# Altium schematic symbol library Analog_ADC.SchLib: 156 symbols (part 2 of 2)
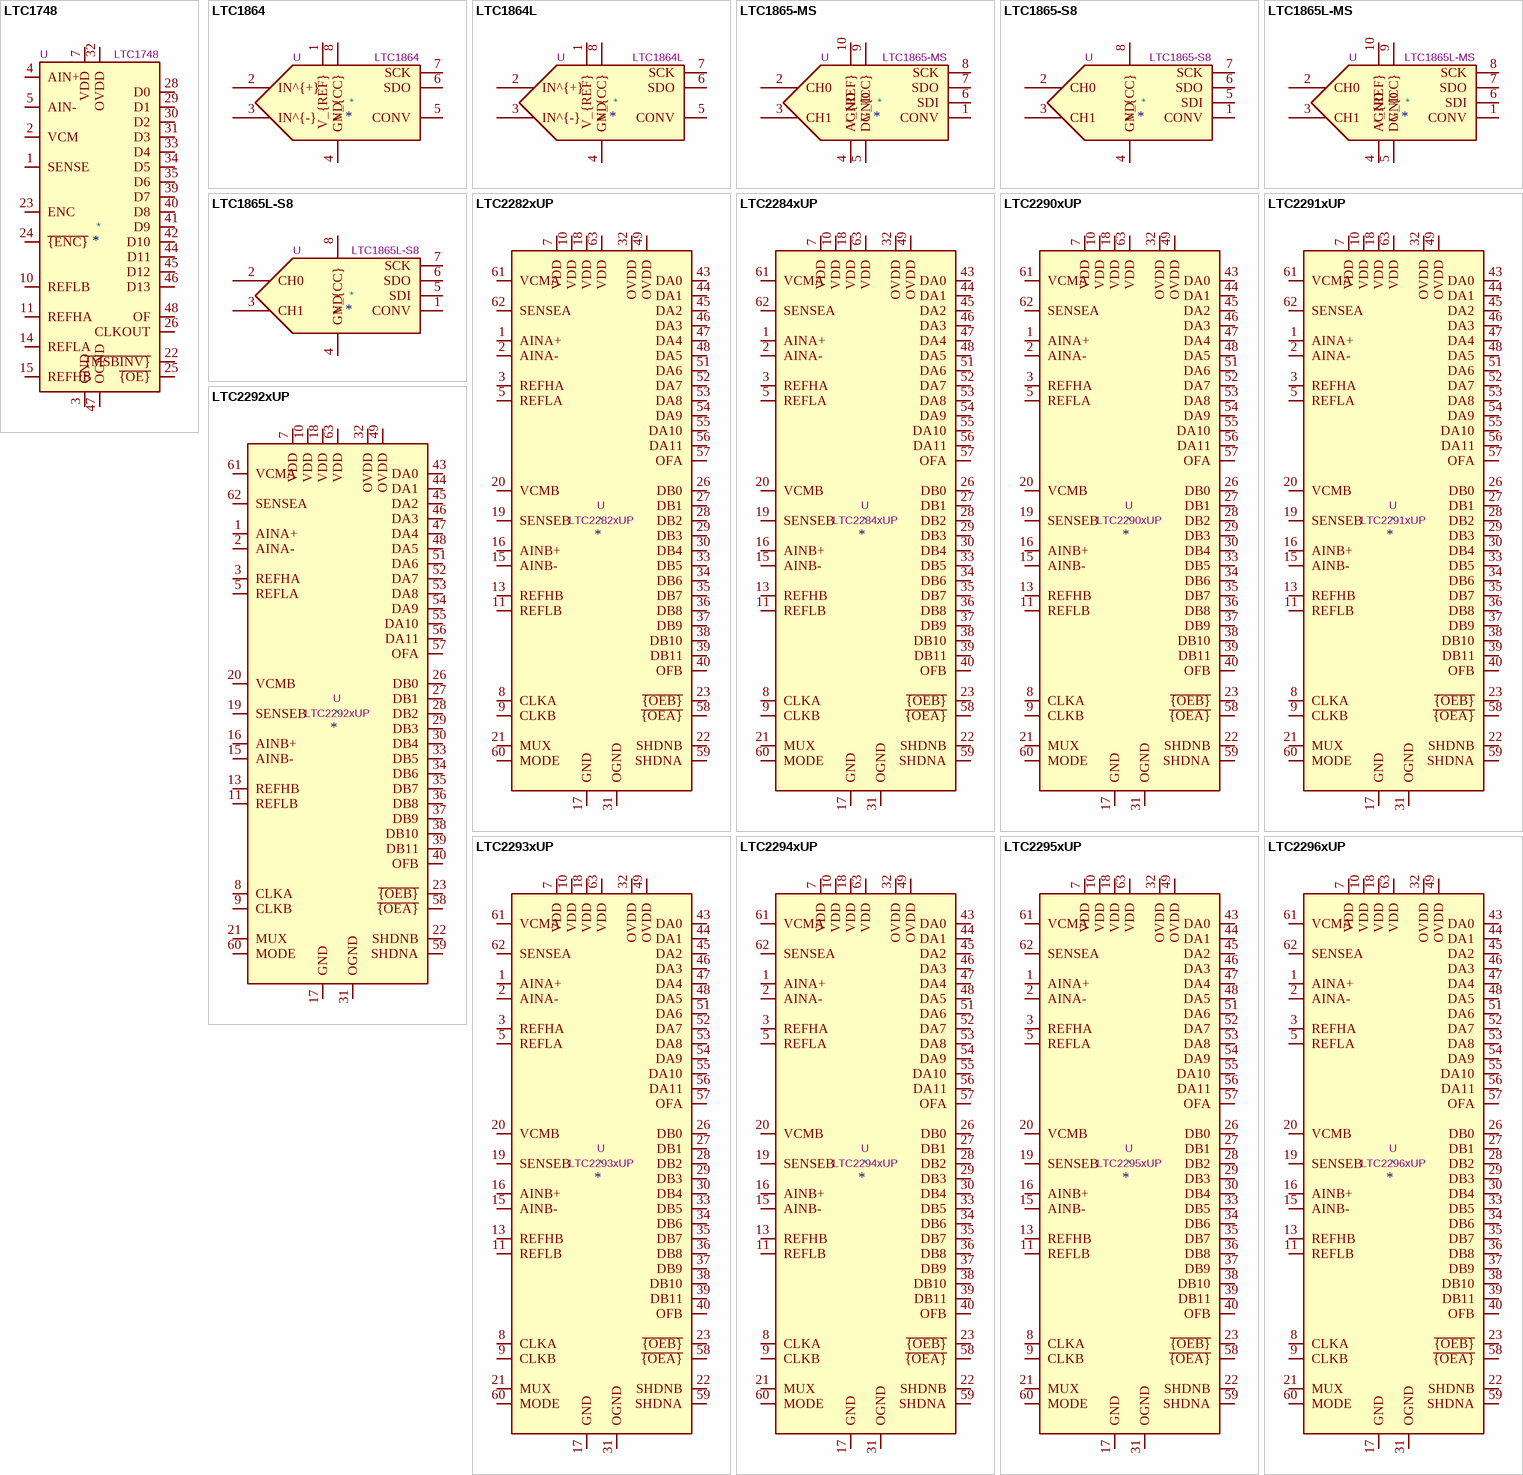
[diagram p6: symbols LTC1748 to LTC2296xUP]

## LTC2290xUP
designator *  value LTC2290xUP  Reference: U
ki_keywords: ADC; ki_description: Dual-Channel, 12-Bit Low Power ADC, 10Msps, QFN-64; ki_fp_filters: QFN*1EP*9x9mm*P0.5mm*; Footprint: Package_DFN_QFN:QFN-64-1EP_9x9mm_P0.5mm_EP7.15x7.15mm; Datasheet: https://www.analog.com/media/en/technical-documentation/data-sheets/2290fa.pdf
pins: 1 AINA+, 2 AINA-, 3 REFHA, 4 REFHA hidden, 5 REFLA, 6 REFLA hidden, 7 VDD, 8 CLKA, 9 CLKB, 10 VDD, 11 REFLB, 12 REFLB hidden, 13 REFHB, 14 REFHB hidden, 15 AINB-, 16 AINB+, 17 GND, 18 VDD, 19 SENSEB, 20 VCMB, 21 MUX, 22 SHDNB, 23 ~{{OEB}}, 24 NC hidden, 25 NC hidden, 26 DB0, 27 DB1, 28 DB2, 29 DB3, 30 DB4, 31 OGND, 32 OVDD, 33 DB5, 34 DB6, 35 DB7, 36 DB8, 37 DB9, 38 DB10, 39 DB11, 40 OFB, 41 NC hidden, 42 NC hidden, 43 DA0, 44 DA1, 45 DA2, 46 DA3, 47 DA4, 48 DA5, 49 OVDD, 50 OGND hidden, 51 DA6, 52 DA7, 53 DA8, 54 DA9, 55 DA10, 56 DA11, 57 OFA, 58 ~{{OEA}}, 59 SHDNA, 60 MODE, 61 VCMA, 62 SENSEA, 63 VDD, 64 GND hidden, 65 GND hidden

## LTC2291xUP
designator *  value LTC2291xUP  Reference: U
ki_keywords: ADC; ki_description: Dual-Channel, 12-Bit Low Power ADC, 25Msps, QFN-64; ki_fp_filters: QFN*1EP*9x9mm*P0.5mm*; Footprint: Package_DFN_QFN:QFN-64-1EP_9x9mm_P0.5mm_EP7.15x7.15mm; Datasheet: https://www.analog.com/media/en/technical-documentation/data-sheets/229321fa.pdf
pins: 1 AINA+, 2 AINA-, 3 REFHA, 4 REFHA hidden, 5 REFLA, 6 REFLA hidden, 7 VDD, 8 CLKA, 9 CLKB, 10 VDD, 11 REFLB, 12 REFLB hidden, 13 REFHB, 14 REFHB hidden, 15 AINB-, 16 AINB+, 17 GND, 18 VDD, 19 SENSEB, 20 VCMB, 21 MUX, 22 SHDNB, 23 ~{{OEB}}, 24 NC hidden, 25 NC hidden, 26 DB0, 27 DB1, 28 DB2, 29 DB3, 30 DB4, 31 OGND, 32 OVDD, 33 DB5, 34 DB6, 35 DB7, 36 DB8, 37 DB9, 38 DB10, 39 DB11, 40 OFB, 41 NC hidden, 42 NC hidden, 43 DA0, 44 DA1, 45 DA2, 46 DA3, 47 DA4, 48 DA5, 49 OVDD, 50 OGND hidden, 51 DA6, 52 DA7, 53 DA8, 54 DA9, 55 DA10, 56 DA11, 57 OFA, 58 ~{{OEA}}, 59 SHDNA, 60 MODE, 61 VCMA, 62 SENSEA, 63 VDD, 64 GND hidden, 65 GND hidden

## LTC2292xUP
designator *  value LTC2292xUP  Reference: U
ki_keywords: ADC; ki_description: Dual-Channel, 12-Bit Low Power ADC, 40Msps, QFN-64; ki_fp_filters: QFN*1EP*9x9mm*P0.5mm*; Footprint: Package_DFN_QFN:QFN-64-1EP_9x9mm_P0.5mm_EP7.15x7.15mm; Datasheet: https://www.analog.com/media/en/technical-documentation/data-sheets/229321fa.pdf
pins: 1 AINA+, 2 AINA-, 3 REFHA, 4 REFHA hidden, 5 REFLA, 6 REFLA hidden, 7 VDD, 8 CLKA, 9 CLKB, 10 VDD, 11 REFLB, 12 REFLB hidden, 13 REFHB, 14 REFHB hidden, 15 AINB-, 16 AINB+, 17 GND, 18 VDD, 19 SENSEB, 20 VCMB, 21 MUX, 22 SHDNB, 23 ~{{OEB}}, 24 NC hidden, 25 NC hidden, 26 DB0, 27 DB1, 28 DB2, 29 DB3, 30 DB4, 31 OGND, 32 OVDD, 33 DB5, 34 DB6, 35 DB7, 36 DB8, 37 DB9, 38 DB10, 39 DB11, 40 OFB, 41 NC hidden, 42 NC hidden, 43 DA0, 44 DA1, 45 DA2, 46 DA3, 47 DA4, 48 DA5, 49 OVDD, 50 OGND hidden, 51 DA6, 52 DA7, 53 DA8, 54 DA9, 55 DA10, 56 DA11, 57 OFA, 58 ~{{OEA}}, 59 SHDNA, 60 MODE, 61 VCMA, 62 SENSEA, 63 VDD, 64 GND hidden, 65 GND hidden

## LTC2293xUP
designator *  value LTC2293xUP  Reference: U
ki_keywords: ADC; ki_description: Dual-Channel, 12-Bit Low Power ADC, 65Msps, QFN-64; ki_fp_filters: QFN*1EP*9x9mm*P0.5mm*; Footprint: Package_DFN_QFN:QFN-64-1EP_9x9mm_P0.5mm_EP7.15x7.15mm; Datasheet: https://www.analog.com/media/en/technical-documentation/data-sheets/229321fa.pdf
pins: 1 AINA+, 2 AINA-, 3 REFHA, 4 REFHA hidden, 5 REFLA, 6 REFLA hidden, 7 VDD, 8 CLKA, 9 CLKB, 10 VDD, 11 REFLB, 12 REFLB hidden, 13 REFHB, 14 REFHB hidden, 15 AINB-, 16 AINB+, 17 GND, 18 VDD, 19 SENSEB, 20 VCMB, 21 MUX, 22 SHDNB, 23 ~{{OEB}}, 24 NC hidden, 25 NC hidden, 26 DB0, 27 DB1, 28 DB2, 29 DB3, 30 DB4, 31 OGND, 32 OVDD, 33 DB5, 34 DB6, 35 DB7, 36 DB8, 37 DB9, 38 DB10, 39 DB11, 40 OFB, 41 NC hidden, 42 NC hidden, 43 DA0, 44 DA1, 45 DA2, 46 DA3, 47 DA4, 48 DA5, 49 OVDD, 50 OGND hidden, 51 DA6, 52 DA7, 53 DA8, 54 DA9, 55 DA10, 56 DA11, 57 OFA, 58 ~{{OEA}}, 59 SHDNA, 60 MODE, 61 VCMA, 62 SENSEA, 63 VDD, 64 GND hidden, 65 GND hidden

## LTC2294xUP
designator *  value LTC2294xUP  Reference: U
ki_keywords: ADC; ki_description: Dual-Channel, 12-Bit Low Power ADC, 80Msps, QFN-64; ki_fp_filters: QFN*1EP*9x9mm*P0.5mm*; Footprint: Package_DFN_QFN:QFN-64-1EP_9x9mm_P0.5mm_EP7.15x7.15mm; Datasheet: https://www.analog.com/media/en/technical-documentation/data-sheets/2294fa.pdf
pins: 1 AINA+, 2 AINA-, 3 REFHA, 4 REFHA hidden, 5 REFLA, 6 REFLA hidden, 7 VDD, 8 CLKA, 9 CLKB, 10 VDD, 11 REFLB, 12 REFLB hidden, 13 REFHB, 14 REFHB hidden, 15 AINB-, 16 AINB+, 17 GND, 18 VDD, 19 SENSEB, 20 VCMB, 21 MUX, 22 SHDNB, 23 ~{{OEB}}, 24 NC hidden, 25 NC hidden, 26 DB0, 27 DB1, 28 DB2, 29 DB3, 30 DB4, 31 OGND, 32 OVDD, 33 DB5, 34 DB6, 35 DB7, 36 DB8, 37 DB9, 38 DB10, 39 DB11, 40 OFB, 41 NC hidden, 42 NC hidden, 43 DA0, 44 DA1, 45 DA2, 46 DA3, 47 DA4, 48 DA5, 49 OVDD, 50 OGND hidden, 51 DA6, 52 DA7, 53 DA8, 54 DA9, 55 DA10, 56 DA11, 57 OFA, 58 ~{{OEA}}, 59 SHDNA, 60 MODE, 61 VCMA, 62 SENSEA, 63 VDD, 64 GND hidden, 65 GND hidden

## LTC2295xUP
designator *  value LTC2295xUP  Reference: U
ki_keywords: ADC; ki_description: Dual-Channel, 14-Bit Low Power ADC, 10Msps, QFN-64; ki_fp_filters: QFN*1EP*9x9mm*P0.5mm*; Footprint: Package_DFN_QFN:QFN-64-1EP_9x9mm_P0.5mm_EP7.15x7.15mm; Datasheet: https://www.analog.com/media/en/technical-documentation/data-sheets/2295fa.pdf
pins: 1 AINA+, 2 AINA-, 3 REFHA, 4 REFHA hidden, 5 REFLA, 6 REFLA hidden, 7 VDD, 8 CLKA, 9 CLKB, 10 VDD, 11 REFLB, 12 REFLB hidden, 13 REFHB, 14 REFHB hidden, 15 AINB-, 16 AINB+, 17 GND, 18 VDD, 19 SENSEB, 20 VCMB, 21 MUX, 22 SHDNB, 23 ~{{OEB}}, 24 NC hidden, 25 NC hidden, 26 DB0, 27 DB1, 28 DB2, 29 DB3, 30 DB4, 31 OGND, 32 OVDD, 33 DB5, 34 DB6, 35 DB7, 36 DB8, 37 DB9, 38 DB10, 39 DB11, 40 OFB, 41 NC hidden, 42 NC hidden, 43 DA0, 44 DA1, 45 DA2, 46 DA3, 47 DA4, 48 DA5, 49 OVDD, 50 OGND hidden, 51 DA6, 52 DA7, 53 DA8, 54 DA9, 55 DA10, 56 DA11, 57 OFA, 58 ~{{OEA}}, 59 SHDNA, 60 MODE, 61 VCMA, 62 SENSEA, 63 VDD, 64 GND hidden, 65 GND hidden

## LTC2296xUP
designator *  value LTC2296xUP  Reference: U
ki_keywords: ADC; ki_description: Dual-Channel, 14-Bit Low Power ADC, 25Msps, QFN-64; ki_fp_filters: QFN*1EP*9x9mm*P0.5mm*; Footprint: Package_DFN_QFN:QFN-64-1EP_9x9mm_P0.5mm_EP7.15x7.15mm; Datasheet: https://www.analog.com/media/en/technical-documentation/data-sheets/229876fa.pdf
pins: 1 AINA+, 2 AINA-, 3 REFHA, 4 REFHA hidden, 5 REFLA, 6 REFLA hidden, 7 VDD, 8 CLKA, 9 CLKB, 10 VDD, 11 REFLB, 12 REFLB hidden, 13 REFHB, 14 REFHB hidden, 15 AINB-, 16 AINB+, 17 GND, 18 VDD, 19 SENSEB, 20 VCMB, 21 MUX, 22 SHDNB, 23 ~{{OEB}}, 24 NC hidden, 25 NC hidden, 26 DB0, 27 DB1, 28 DB2, 29 DB3, 30 DB4, 31 OGND, 32 OVDD, 33 DB5, 34 DB6, 35 DB7, 36 DB8, 37 DB9, 38 DB10, 39 DB11, 40 OFB, 41 NC hidden, 42 NC hidden, 43 DA0, 44 DA1, 45 DA2, 46 DA3, 47 DA4, 48 DA5, 49 OVDD, 50 OGND hidden, 51 DA6, 52 DA7, 53 DA8, 54 DA9, 55 DA10, 56 DA11, 57 OFA, 58 ~{{OEA}}, 59 SHDNA, 60 MODE, 61 VCMA, 62 SENSEA, 63 VDD, 64 GND hidden, 65 GND hidden

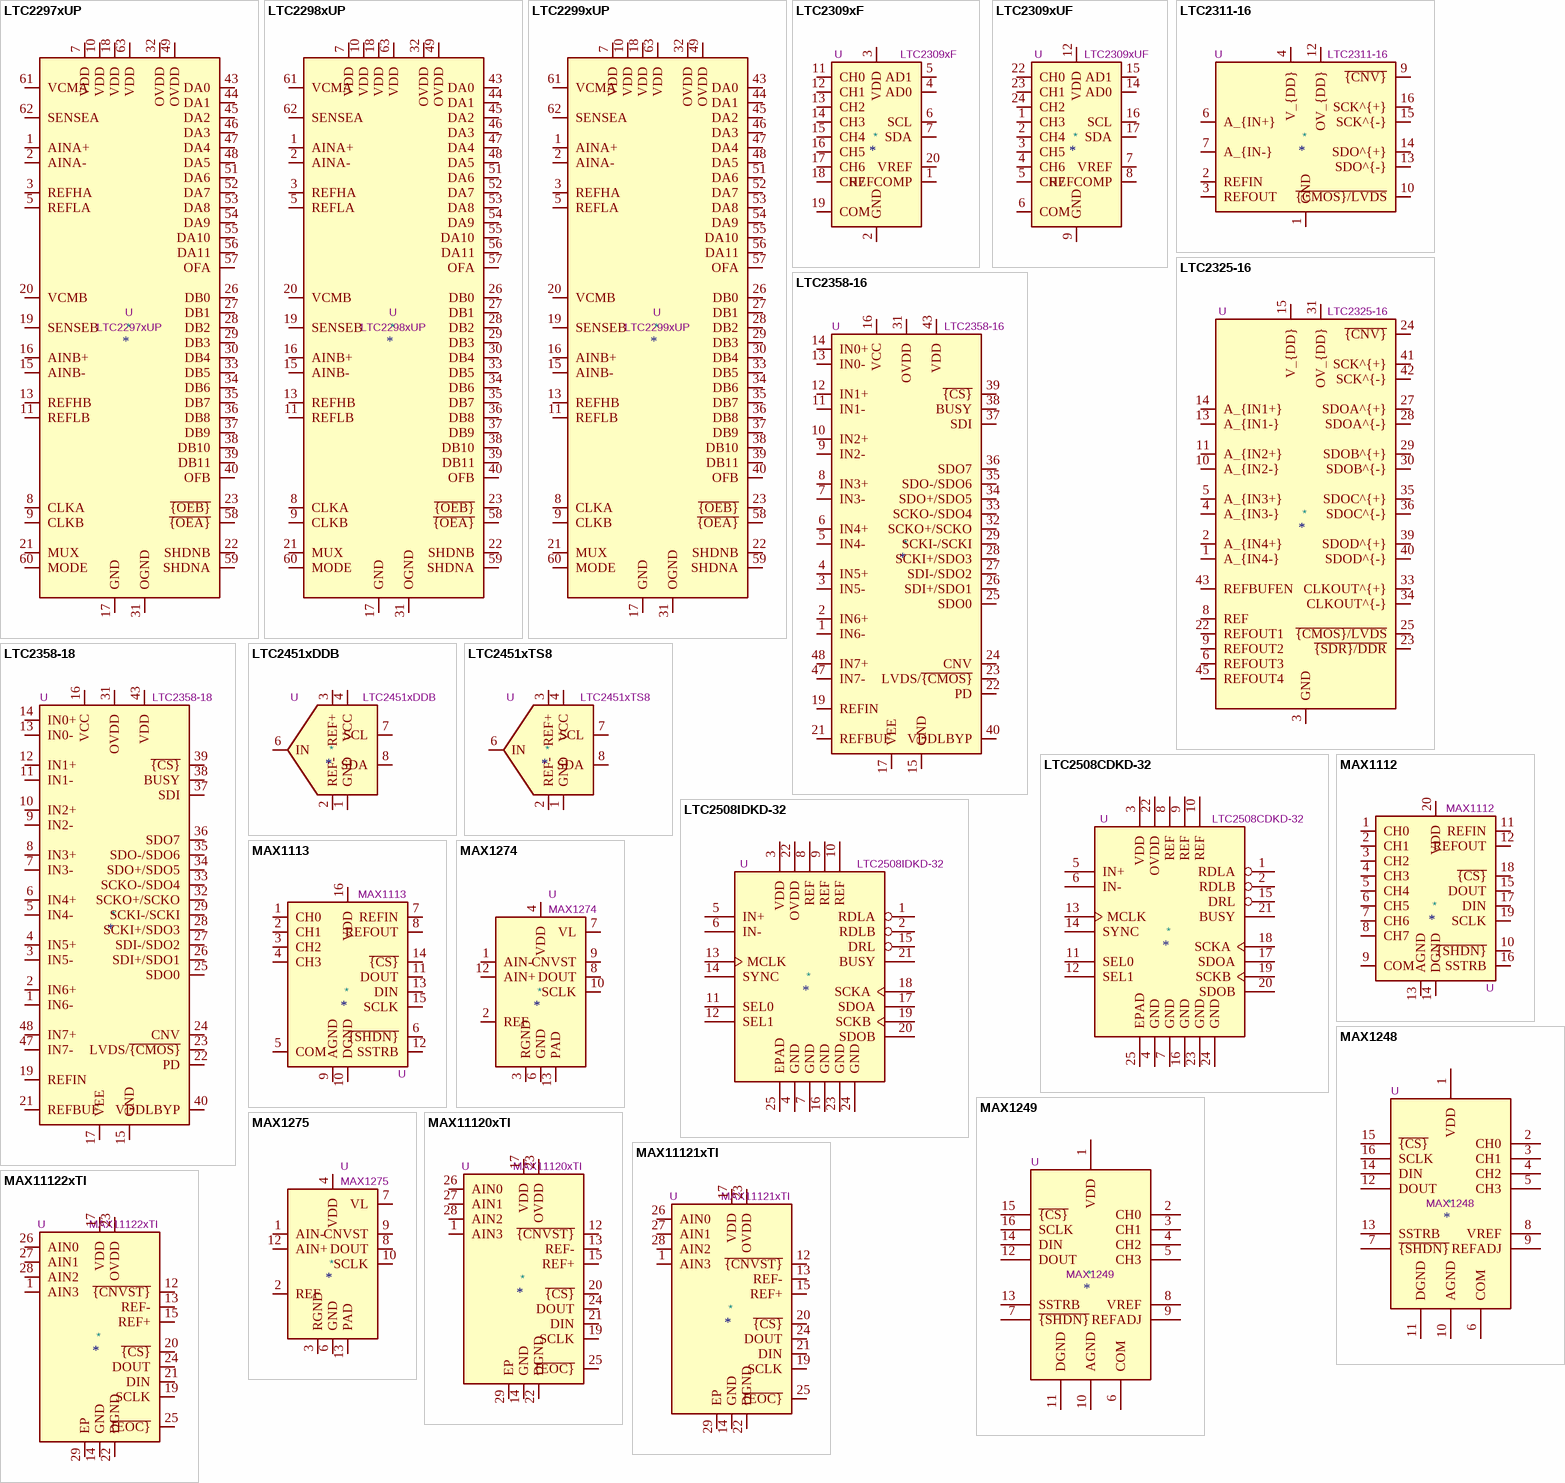
[diagram p4: symbols LTC2297xUP to MAX11122xTI]

## LTC2297xUP
designator *  value LTC2297xUP  Reference: U
ki_keywords: ADC; ki_description: Dual-Channel, 14-Bit Low Power ADC, 40Msps, QFN-64; ki_fp_filters: QFN*1EP*9x9mm*P0.5mm*; Footprint: Package_DFN_QFN:QFN-64-1EP_9x9mm_P0.5mm_EP7.15x7.15mm; Datasheet: https://www.analog.com/media/en/technical-documentation/data-sheets/229876fa.pdf
pins: 1 AINA+, 2 AINA-, 3 REFHA, 4 REFHA hidden, 5 REFLA, 6 REFLA hidden, 7 VDD, 8 CLKA, 9 CLKB, 10 VDD, 11 REFLB, 12 REFLB hidden, 13 REFHB, 14 REFHB hidden, 15 AINB-, 16 AINB+, 17 GND, 18 VDD, 19 SENSEB, 20 VCMB, 21 MUX, 22 SHDNB, 23 ~{{OEB}}, 24 NC hidden, 25 NC hidden, 26 DB0, 27 DB1, 28 DB2, 29 DB3, 30 DB4, 31 OGND, 32 OVDD, 33 DB5, 34 DB6, 35 DB7, 36 DB8, 37 DB9, 38 DB10, 39 DB11, 40 OFB, 41 NC hidden, 42 NC hidden, 43 DA0, 44 DA1, 45 DA2, 46 DA3, 47 DA4, 48 DA5, 49 OVDD, 50 OGND hidden, 51 DA6, 52 DA7, 53 DA8, 54 DA9, 55 DA10, 56 DA11, 57 OFA, 58 ~{{OEA}}, 59 SHDNA, 60 MODE, 61 VCMA, 62 SENSEA, 63 VDD, 64 GND hidden, 65 GND hidden

## LTC2298xUP
designator *  value LTC2298xUP  Reference: U
ki_keywords: ADC; ki_description: Dual-Channel, 14-Bit Low Power ADC, 65Msps, QFN-64; ki_fp_filters: QFN*1EP*9x9mm*P0.5mm*; Footprint: Package_DFN_QFN:QFN-64-1EP_9x9mm_P0.5mm_EP7.15x7.15mm; Datasheet: https://www.analog.com/media/en/technical-documentation/data-sheets/229876fa.pdf
pins: 1 AINA+, 2 AINA-, 3 REFHA, 4 REFHA hidden, 5 REFLA, 6 REFLA hidden, 7 VDD, 8 CLKA, 9 CLKB, 10 VDD, 11 REFLB, 12 REFLB hidden, 13 REFHB, 14 REFHB hidden, 15 AINB-, 16 AINB+, 17 GND, 18 VDD, 19 SENSEB, 20 VCMB, 21 MUX, 22 SHDNB, 23 ~{{OEB}}, 24 NC hidden, 25 NC hidden, 26 DB0, 27 DB1, 28 DB2, 29 DB3, 30 DB4, 31 OGND, 32 OVDD, 33 DB5, 34 DB6, 35 DB7, 36 DB8, 37 DB9, 38 DB10, 39 DB11, 40 OFB, 41 NC hidden, 42 NC hidden, 43 DA0, 44 DA1, 45 DA2, 46 DA3, 47 DA4, 48 DA5, 49 OVDD, 50 OGND hidden, 51 DA6, 52 DA7, 53 DA8, 54 DA9, 55 DA10, 56 DA11, 57 OFA, 58 ~{{OEA}}, 59 SHDNA, 60 MODE, 61 VCMA, 62 SENSEA, 63 VDD, 64 GND hidden, 65 GND hidden

## LTC2299xUP
designator *  value LTC2299xUP  Reference: U
ki_keywords: ADC; ki_description: Dual-Channel, 14-Bit Low Power ADC, 80Msps, QFN-64; ki_fp_filters: QFN*1EP*9x9mm*P0.5mm*; Footprint: Package_DFN_QFN:QFN-64-1EP_9x9mm_P0.5mm_EP7.15x7.15mm; Datasheet: https://www.analog.com/media/en/technical-documentation/data-sheets/2299fa.pdf
pins: 1 AINA+, 2 AINA-, 3 REFHA, 4 REFHA hidden, 5 REFLA, 6 REFLA hidden, 7 VDD, 8 CLKA, 9 CLKB, 10 VDD, 11 REFLB, 12 REFLB hidden, 13 REFHB, 14 REFHB hidden, 15 AINB-, 16 AINB+, 17 GND, 18 VDD, 19 SENSEB, 20 VCMB, 21 MUX, 22 SHDNB, 23 ~{{OEB}}, 24 NC hidden, 25 NC hidden, 26 DB0, 27 DB1, 28 DB2, 29 DB3, 30 DB4, 31 OGND, 32 OVDD, 33 DB5, 34 DB6, 35 DB7, 36 DB8, 37 DB9, 38 DB10, 39 DB11, 40 OFB, 41 NC hidden, 42 NC hidden, 43 DA0, 44 DA1, 45 DA2, 46 DA3, 47 DA4, 48 DA5, 49 OVDD, 50 OGND hidden, 51 DA6, 52 DA7, 53 DA8, 54 DA9, 55 DA10, 56 DA11, 57 OFA, 58 ~{{OEA}}, 59 SHDNA, 60 MODE, 61 VCMA, 62 SENSEA, 63 VDD, 64 GND hidden, 65 GND hidden

## LTC2309xF
designator *  value LTC2309xF  Reference: U
ki_keywords: LT ADC 12bit I2C SAR TSSOP; ki_description: 8 Channels, 12-Bit SAR ADC, I2C interface, TSSOP-20 package; ki_fp_filters: TSSOP*4.4x6.5mm*P0.65mm*; Footprint: Package_SO:TSSOP-20_4.4x6.5mm_P0.65mm; Datasheet: https://www.analog.com/media/en/technical-documentation/data-sheets/2309fd.pdf
pins: 1 REFCOMP, 2 GND, 3 VDD, 4 AD0, 5 AD1, 6 SCL, 7 SDA, 8 GND hidden, 9 GND hidden, 10 VDD hidden, 11 CH0, 12 CH1, 13 CH2, 14 CH3, 15 CH4, 16 CH5, 17 CH6, 18 CH7, 19 COM, 20 VREF

## LTC2309xUF
designator *  value LTC2309xUF  Reference: U
ki_keywords: LT ADC 12bit I2C SAR QFN; ki_description: 8 Channels, 12-Bit SAR ADC, I2C interface, QFN-24 package; ki_fp_filters: QFN*1EP*4x4mm*0.5mm*; Footprint: Package_DFN_QFN:QFN-24-1EP_4x4mm_P0.5mm_EP2.6x2.6mm; Datasheet: https://www.analog.com/media/en/technical-documentation/data-sheets/2309fd.pdf
pins: 1 CH3, 2 CH4, 3 CH5, 4 CH6, 5 CH7, 6 COM, 7 VREF, 8 REFCOMP, 9 GND, 10 GND hidden, 11 GND hidden, 12 VDD, 13 VDD hidden, 14 AD0, 15 AD1, 16 SCL, 17 SDA, 18 GND hidden, 19 GND hidden, 20 GND hidden, 21 VDD hidden, 22 CH0, 23 CH1, 24 CH2, 25 GND hidden

## LTC2311-16
designator *  value LTC2311-16  Reference: U
ki_keywords: 16-bit adc differential input 5 msps lvds cmos; ki_description: 16-Bit, 5Msps Differential Input ADC with Wide Input Common Mode Range, LVDS/CMOS interface, MSOP-16; ki_fp_filters: MSOP*1EP*3x4.039mm*P0.5mm*; Footprint: Package_SO:MSOP-16-1EP_3x4.039mm_P0.5mm_EP1.651x2.845mm; Datasheet: https://www.analog.com/media/en/technical-documentation/data-sheets/231116fa.pdf
pins: 1 GND, 2 REFIN, 3 REFOUT, 4 V_{DD}, 5 GND hidden, 6 A_{IN+}, 7 A_{IN-}, 8 GND hidden, 9 ~{{CNV}}, 10 ~{{CMOS}/LVDS}, 11 GND hidden, 12 OV_{DD}, 13 SDO^{-}, 14 SDO^{+}, 15 SCK^{-}, 16 SCK^{+}, 17 GND hidden

## LTC2325-16
designator *  value LTC2325-16  Reference: U
ki_keywords: 16-Bit 5msps 4 channel adc lvds cmos; ki_description: Quad, 16-Bit, 5Msps/Ch Simultaneous Sampling ADC, LVDS/CMOS interface, QFN-52; ki_fp_filters: QFN*1EP*P0.5mm*5.41x6.45mm*; Footprint: Package_DFN_QFN:QFN-52-1EP_7x8mm_P0.5mm_EP5.41x6.45mm_ThermalVias; Datasheet: https://www.analog.com/media/en/technical-documentation/data-sheets/232516fa.pdf
pins: 1 A_{IN4-}, 2 A_{IN4+}, 3 GND, 4 A_{IN3-}, 5 A_{IN3+}, 6 REFOUT3, 7 GND hidden, 8 REF, 9 REFOUT2, 10 A_{IN2-}, 11 A_{IN2+}, 12 GND hidden, 13 A_{IN1-}, 14 A_{IN1+}, 15 V_{DD}, 16 NC hidden, 17 NC hidden, 18 GND hidden, 19 NC hidden, 20 NC hidden, 21 V_{DD} hidden, 22 REFOUT1, 23 ~{{SDR}/DDR}, 24 ~{{CNV}}, 25 ~{{CMOS}/LVDS}, 26 GND hidden, 27 SDOA^{+}, 28 SDOA^{-}, 29 SDOB^{+}, 30 SDOB^{-}, 31 OV_{DD}, 32 GND hidden, 33 CLKOUT^{+}, 34 CLKOUT^{-}, 35 SDOC^{+}, 36 SDOC^{-}, 37 OV_{DD} hidden, 38 GND hidden, 39 SDOD^{+}, 40 SDOD^{-}, 41 SCK^{+}, 42 SCK^{-}, 43 REFBUFEN, 44 V_{DD} hidden, 45 REFOUT4, 46 GND hidden, 47 NC hidden, 48 NC hidden, 49 GND hidden, 50 NC hidden, 51 NC hidden, 52 V_{DD} hidden, 53 GND hidden

## LTC2358-16
designator *  value LTC2358-16  Reference: U
ki_keywords: 16bit Simultaneous Sampling ADC 8 Channels SPI buffered; ki_description: LTC2358 Buffered Octal, 16 bit, 200ksps/Ch Differential +-10.24V Simultaneous Sampling ADC, 30Vpp common mode range, LQFP-48; ki_fp_filters: LQFP?48*7x7mm*P0.5mm*; Footprint: Package_QFP:LQFP-48_7x7mm_P0.5mm; Datasheet: https://www.analog.com/media/en/technical-documentation/data-sheets/235816f.pdf
pins: 1 IN6-, 2 IN6+, 3 IN5-, 4 IN5+, 5 IN4-, 6 IN4+, 7 IN3-, 8 IN3+, 9 IN2-, 10 IN2+, 11 IN1-, 12 IN1+, 13 IN0-, 14 IN0+, 15 GND, 16 VCC, 17 VEE, 18 GND hidden, 19 REFIN, 20 GND hidden, 21 REFBUF, 22 PD, 23 LVDS/~{{CMOS}}, 24 CNV, 25 SDO0, 26 SDI+/SDO1, 27 SDI-/SDO2, 28 SCKI+/SDO3, 29 SCKI-/SCKI, 30 GND hidden, 31 OVDD, 32 SCKO+/SCKO, 33 SCKO-/SDO4, 34 SDO+/SDO5, 35 SDO-/SDO6, 36 SDO7, 37 SDI, 38 BUSY, 39 ~{{CS}}, 40 VDDLBYP, 41 GND hidden, 42 VDD hidden, 43 VDD, 44 GND hidden, 45 VEE hidden, 46 GND hidden, 47 IN7-, 48 IN7+

## LTC2358-18
designator *  value LTC2358-18  Reference: U
ki_keywords: 18bit Simultaneous Sampling ADC 8 Channels SPI buffered; ki_description: LTC2358 Buffered Octal, 18 bit, 200ksps/Ch Differential +-10.24V Simultaneous Sampling ADC, 30Vpp common mode range, LQFP-48; ki_fp_filters: LQFP?48*7x7mm*P0.5mm*; Footprint: Package_QFP:LQFP-48_7x7mm_P0.5mm; Datasheet: https://www.analog.com/media/en/technical-documentation/data-sheets/235818f.pdf
pins: 1 IN6-, 2 IN6+, 3 IN5-, 4 IN5+, 5 IN4-, 6 IN4+, 7 IN3-, 8 IN3+, 9 IN2-, 10 IN2+, 11 IN1-, 12 IN1+, 13 IN0-, 14 IN0+, 15 GND, 16 VCC, 17 VEE, 18 GND hidden, 19 REFIN, 20 GND hidden, 21 REFBUF, 22 PD, 23 LVDS/~{{CMOS}}, 24 CNV, 25 SDO0, 26 SDI+/SDO1, 27 SDI-/SDO2, 28 SCKI+/SDO3, 29 SCKI-/SCKI, 30 GND hidden, 31 OVDD, 32 SCKO+/SCKO, 33 SCKO-/SDO4, 34 SDO+/SDO5, 35 SDO-/SDO6, 36 SDO7, 37 SDI, 38 BUSY, 39 ~{{CS}}, 40 VDDLBYP, 41 GND hidden, 42 VDD hidden, 43 VDD, 44 GND hidden, 45 VEE hidden, 46 GND hidden, 47 IN7-, 48 IN7+

## LTC2451xDDB
designator *  value LTC2451xDDB  Reference: U
ki_keywords: analog to digital converter adc i2c twi single channel delta sigma 16 bit; ki_description: Analog to Digital Converter, Single Channel, 16-Bit, 30/60 SPS, 2.7V to 5.5V, I2C interface, DFN-8; ki_fp_filters: DFN*1EP*2x3mm*P0.5mm*; Footprint: Package_DFN_QFN:DFN-8-1EP_2x3mm_P0.5mm_EP0.56x2.15mm; Datasheet: https://www.analog.com/media/en/technical-documentation/data-sheets/2451fg.pdf
pins: 1 GND, 2 REF-, 3 REF+, 4 VCC, 5 GND hidden, 6 IN, 7 SCL, 8 SDA, 9 GND hidden

## LTC2451xTS8
designator *  value LTC2451xTS8  Reference: U
ki_keywords: analog to digital converter adc i2c twi single channel delta sigma 16 bit; ki_description: Analog to Digital Converter, Single Channel, 16-Bit, 30/60 SPS, 2.7V to 5.5V, I2C interface, TSOT-23-6; ki_fp_filters: TSOT?23*; Footprint: Package_TO_SOT_SMD:TSOT-23-8; Datasheet: https://www.analog.com/media/en/technical-documentation/data-sheets/2451fg.pdf
pins: 1 GND, 2 REF-, 3 REF+, 4 VCC, 5 GND hidden, 6 IN, 7 SCL, 8 SDA

## LTC2508CDKD-32
designator *  value LTC2508CDKD-32  Reference: U
ki_keywords: LT ADC 32bit; ki_description: 32-Bit Oversampling ADC with Configurable Digital Filter, 0°C to 70°C, DFN-24 package; ki_fp_filters: DFN*1EP*4x7mm*P0.5mm*; Footprint: Package_DFN_QFN:DFN-24-1EP_4x7mm_P0.5mm_EP2.64x6.44mm; Datasheet: https://www.analog.com/media/en/technical-documentation/data-sheets/250832fc.pdf
pins: 1 RDLA, 2 RDLB, 3 VDD, 4 GND, 5 IN+, 6 IN-, 7 GND, 8 REF, 9 REF, 10 REF, 11 SEL0, 12 SEL1, 13 MCLK, 14 SYNC, 15 DRL, 16 GND, 17 SDOA, 18 SCKA, 19 SCKB, 20 SDOB, 21 BUSY, 22 OVDD, 23 GND, 24 GND, 25 EPAD

## LTC2508IDKD-32
designator *  value LTC2508IDKD-32  Reference: U
ki_keywords: LT ADC 32bit; ki_description: 32-Bit Oversampling ADC with Configurable Digital Filter, -40°C to 85°C, DFN-24 package; ki_fp_filters: DFN*1EP*4x7mm*P0.5mm*; Footprint: Package_DFN_QFN:DFN-24-1EP_4x7mm_P0.5mm_EP2.64x6.44mm; Datasheet: https://www.analog.com/media/en/technical-documentation/data-sheets/250832fc.pdf
pins: 1 RDLA, 2 RDLB, 3 VDD, 4 GND, 5 IN+, 6 IN-, 7 GND, 8 REF, 9 REF, 10 REF, 11 SEL0, 12 SEL1, 13 MCLK, 14 SYNC, 15 DRL, 16 GND, 17 SDOA, 18 SCKA, 19 SCKB, 20 SDOB, 21 BUSY, 22 OVDD, 23 GND, 24 GND, 25 EPAD

## MAX1112
designator *  value MAX1112  Reference: U
ki_keywords: MAXIM ADC 5V 8-Bit SPI QSPI MICROWIRE; ki_description: 8-Channel Single-Ended or 4-Channel Differential 8-Bit ADC, SSOP-20; ki_fp_filters: SSOP*5.3x7.2mm*P0.65mm*; Footprint: Package_SO:SSOP-20_5.3x7.2mm_P0.65mm; Datasheet: http://datasheets.maximintegrated.com/en/ds/MAX1112-MAX1113.pdf
pins: 1 CH0, 2 CH1, 3 CH2, 4 CH3, 5 CH4, 6 CH5, 7 CH6, 8 CH7, 9 COM, 10 ~{{SHDN}}, 11 REFIN, 12 REFOUT, 13 AGND, 14 DGND, 15 DOUT, 16 SSTRB, 17 DIN, 18 ~{{CS}}, 19 SCLK, 20 VDD

## MAX1113
designator *  value MAX1113  Reference: U
ki_keywords: MAXIM ADC 5V 8-Bit SPI QSPI MICROWIRE; ki_description: 4-Channel Single-Ended or 2-Channel Differential 8-Bit ADC, QSOP-16; ki_fp_filters: QSOP*3.9x4.9mm*P0.635mm*; Footprint: Package_SO:QSOP-16_3.9x4.9mm_P0.635mm; Datasheet: http://datasheets.maximintegrated.com/en/ds/MAX1112-MAX1113.pdf
pins: 1 CH0, 2 CH1, 3 CH2, 4 CH3, 5 COM, 6 ~{{SHDN}}, 7 REFIN, 8 REFOUT, 9 AGND, 10 DGND, 11 DOUT, 12 SSTRB, 13 DIN, 14 ~{{CS}}, 15 SCLK, 16 VDD

## MAX1248
designator *  value MAX1248  Reference: U
ki_keywords: 10-Bit ADC Internal Reference Serial 4-Channel Maxim; ki_description: 4-Channel 10-Bit ADC with Serial Interface, +2.7V to +5.25V, Internal 2.5V Reference, Low-Power; ki_fp_filters: DIP* QSOP*; Datasheet: https://datasheets.maximintegrated.com/en/ds/MAX1248-MAX1249.pdf
pins: 1 VDD, 2 CH0, 3 CH1, 4 CH2, 5 CH3, 6 COM, 7 ~{{SHDN}}, 8 VREF, 9 REFADJ, 10 AGND, 11 DGND, 12 DOUT, 13 SSTRB, 14 DIN, 15 ~{{CS}}, 16 SCLK

## MAX1249
designator *  value MAX1249  Reference: U
ki_keywords: 10-Bit ADC Serial 4-Channel Maxim; ki_description: 4-Channel 10-Bit ADC with Serial Interface, +2.7V to +5.25V, Low-Power; ki_fp_filters: DIP* QSOP*; Datasheet: https://datasheets.maximintegrated.com/en/ds/MAX1248-MAX1249.pdf
pins: 1 VDD, 2 CH0, 3 CH1, 4 CH2, 5 CH3, 6 COM, 7 ~{{SHDN}}, 8 VREF, 9 REFADJ, 10 AGND, 11 DGND, 12 DOUT, 13 SSTRB, 14 DIN, 15 ~{{CS}}, 16 SCLK

## MAX1274
designator *  value MAX1274  Reference: U
ki_keywords: 12bit ADC 1CH diff differential; ki_description: 1.8Msps, Single-Supply, Low-Power, True-Differential, 12-Bit ADCs, bipolar input; ki_fp_filters: *QFN*4x4mm*P0.8mm*; Datasheet: https://datasheets.maximintegrated.com/en/ds/MAX1274-MAX1275.pdf
pins: 1 AIN-, 2 REF, 3 RGND, 4 VDD, 5 NC hidden, 6 GND, 7 VL, 8 DOUT, 9 CNVST, 10 SCLK, 11 NC hidden, 12 AIN+, 13 PAD

## MAX1275
designator *  value MAX1275  Reference: U
ki_keywords: 12bit ADC 1CH diff differential; ki_description: 1.8Msps, Single-Supply, Low-Power, True-Differential, 12-Bit ADCs, unipolar input; ki_fp_filters: *QFN*4x4mm*P0.8mm*; Datasheet: https://datasheets.maximintegrated.com/en/ds/MAX1274-MAX1275.pdf
pins: 1 AIN-, 2 REF, 3 RGND, 4 VDD, 5 NC hidden, 6 GND, 7 VL, 8 DOUT, 9 CNVST, 10 SCLK, 11 NC hidden, 12 AIN+, 13 PAD

## MAX11120xTI
designator *  value MAX11120xTI  Reference: U
ki_keywords: MAXIM ADC 3.3V 8-Bit SPI; ki_description: 4-Channel 8-Bit 1.5MHz Full-Linear Bandwidth External Reference High-Speed Low-Power ADC, QFN-28; ki_fp_filters: *QFN*1EP*5x5mm*P0.5mm*; Footprint: Package_DFN_QFN:TQFN-28-1EP_5x5mm_P0.5mm_EP3.25x3.25mm; Datasheet: https://datasheets.maximintegrated.com/en/ds/MAX11120-MAX11128.pdf
pins: 1 AIN3, 2 GND hidden, 3 GND hidden, 4 GND hidden, 5 GND hidden, 6 GND hidden, 7 GND hidden, 8 GND hidden, 9 GND hidden, 10 GND hidden, 11 GND hidden, 12 ~{{CNVST}}, 13 REF-, 14 GND, 15 REF+, 16 GND hidden, 17 VDD, 18 VDD hidden, 19 SCLK, 20 ~{{CS}}, 21 DIN, 22 DGND, 23 OVDD, 24 DOUT, 25 ~{{EOC}}, 26 AIN0, 27 AIN1, 28 AIN2, 29 EP

## MAX11121xTI
designator *  value MAX11121xTI  Reference: U
ki_keywords: MAXIM ADC 3.3V 10-Bit SPI; ki_description: 4-Channel 10-Bit 1.5MHz Full-Linear Bandwidth External Reference High-Speed Low-Power ADC, QFN-28; ki_fp_filters: *QFN*1EP*5x5mm*P0.5mm*; Footprint: Package_DFN_QFN:TQFN-28-1EP_5x5mm_P0.5mm_EP3.25x3.25mm; Datasheet: https://datasheets.maximintegrated.com/en/ds/MAX11120-MAX11128.pdf
pins: 1 AIN3, 2 GND hidden, 3 GND hidden, 4 GND hidden, 5 GND hidden, 6 GND hidden, 7 GND hidden, 8 GND hidden, 9 GND hidden, 10 GND hidden, 11 GND hidden, 12 ~{{CNVST}}, 13 REF-, 14 GND, 15 REF+, 16 GND hidden, 17 VDD, 18 VDD hidden, 19 SCLK, 20 ~{{CS}}, 21 DIN, 22 DGND, 23 OVDD, 24 DOUT, 25 ~{{EOC}}, 26 AIN0, 27 AIN1, 28 AIN2, 29 EP

## MAX11122xTI
designator *  value MAX11122xTI  Reference: U
ki_keywords: MAXIM ADC 3.3V 12-Bit SPI; ki_description: 4-Channel 12-Bit 1.5MHz Full-Linear Bandwidth External Reference High-Speed Low-Power ADC, QFN-28; ki_fp_filters: *QFN*1EP*5x5mm*P0.5mm*; Footprint: Package_DFN_QFN:TQFN-28-1EP_5x5mm_P0.5mm_EP3.25x3.25mm; Datasheet: https://datasheets.maximintegrated.com/en/ds/MAX11120-MAX11128.pdf
pins: 1 AIN3, 2 GND hidden, 3 GND hidden, 4 GND hidden, 5 GND hidden, 6 GND hidden, 7 GND hidden, 8 GND hidden, 9 GND hidden, 10 GND hidden, 11 GND hidden, 12 ~{{CNVST}}, 13 REF-, 14 GND, 15 REF+, 16 GND hidden, 17 VDD, 18 VDD hidden, 19 SCLK, 20 ~{{CS}}, 21 DIN, 22 DGND, 23 OVDD, 24 DOUT, 25 ~{{EOC}}, 26 AIN0, 27 AIN1, 28 AIN2, 29 EP

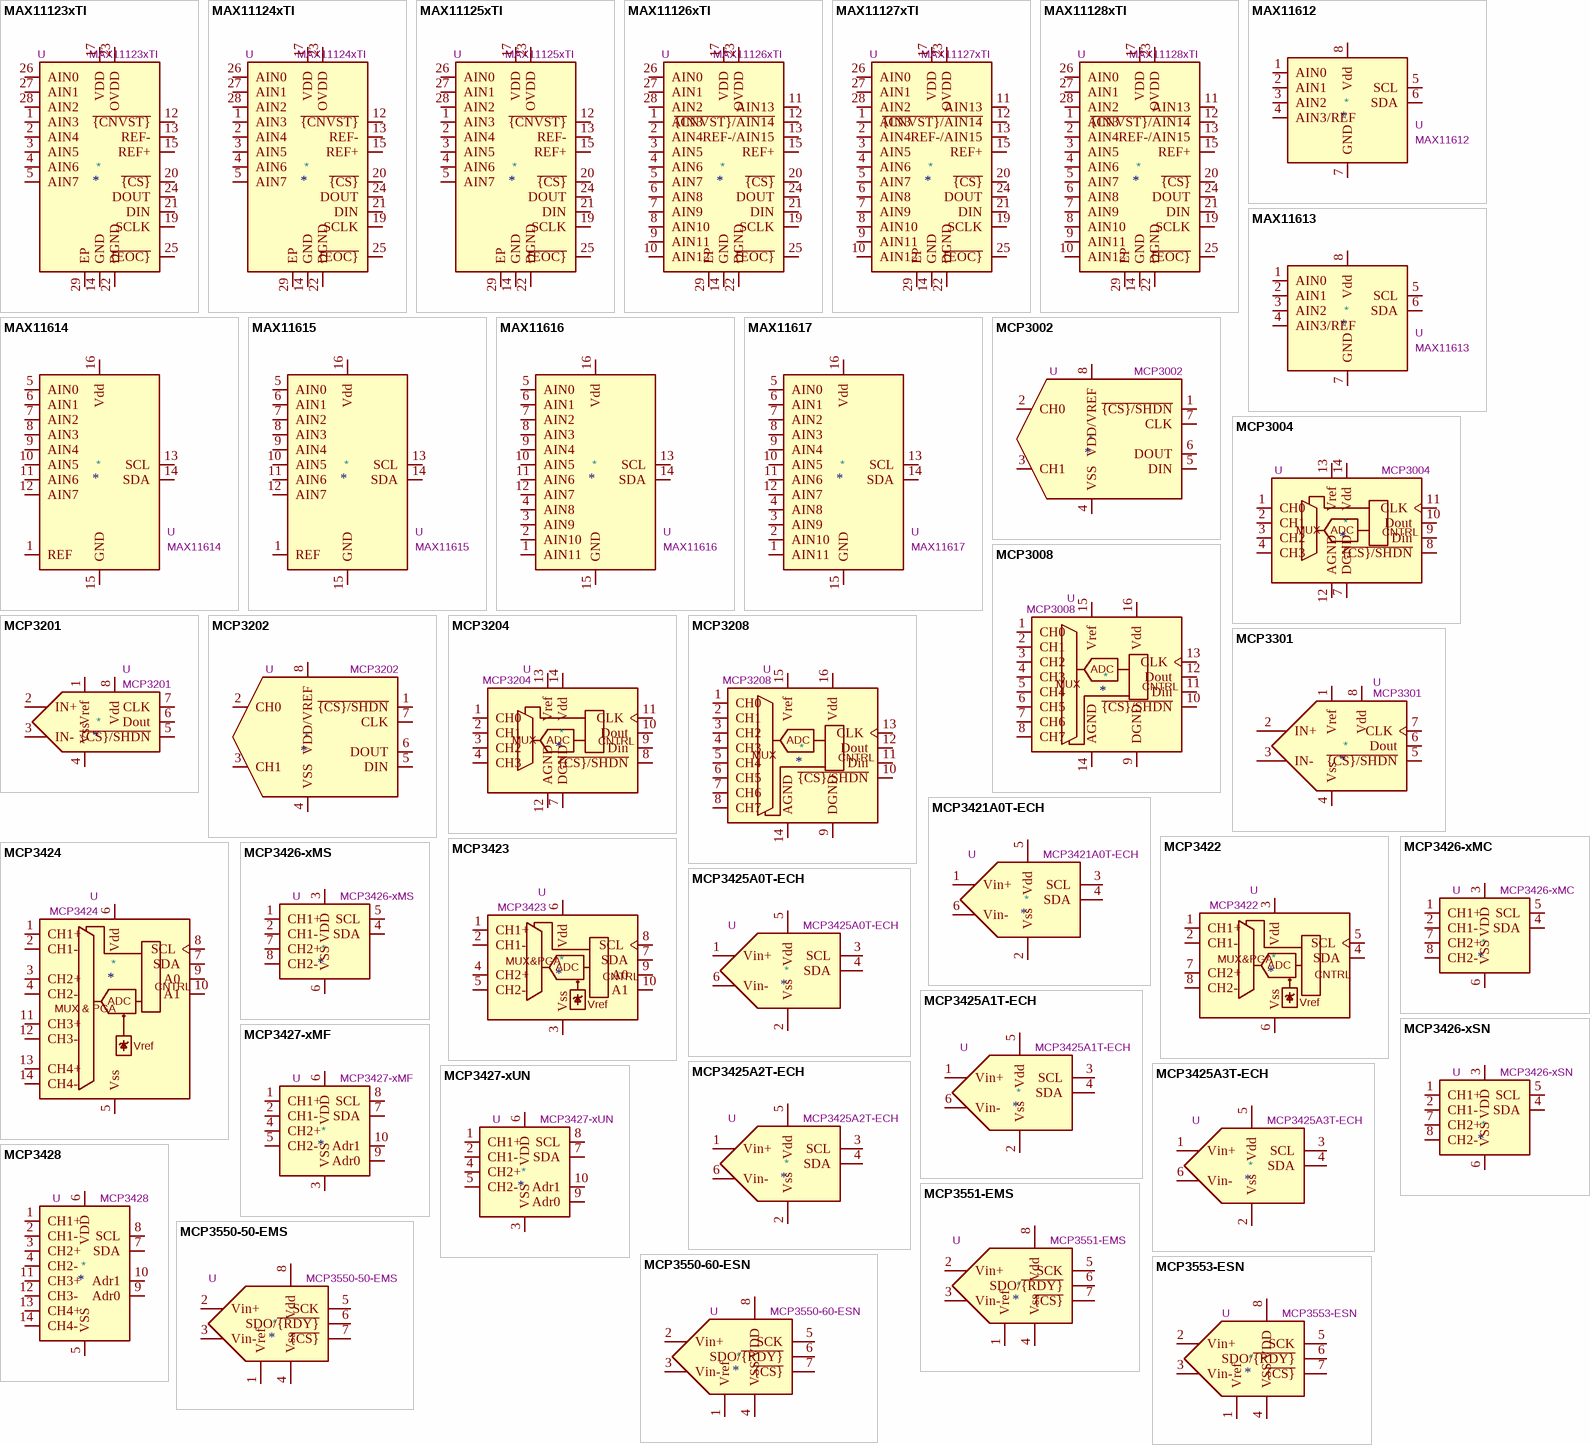
[diagram p5: symbols MAX11123xTI to MCP3553-ESN]

## MAX11123xTI
designator *  value MAX11123xTI  Reference: U
ki_keywords: MAXIM ADC 3.3V 8-Bit SPI; ki_description: 8-Channel 8-Bit 1.5MHz Full-Linear Bandwidth External Reference High-Speed Low-Power ADC, QFN-28; ki_fp_filters: *QFN*1EP*5x5mm*P0.5mm*; Footprint: Package_DFN_QFN:TQFN-28-1EP_5x5mm_P0.5mm_EP3.25x3.25mm; Datasheet: https://datasheets.maximintegrated.com/en/ds/MAX11120-MAX11128.pdf
pins: 1 AIN3, 2 AIN4, 3 AIN5, 4 AIN6, 5 AIN7, 6 GND hidden, 7 GND hidden, 8 GND hidden, 9 GND hidden, 10 GND hidden, 11 GND hidden, 12 ~{{CNVST}}, 13 REF-, 14 GND, 15 REF+, 16 GND hidden, 17 VDD, 18 VDD hidden, 19 SCLK, 20 ~{{CS}}, 21 DIN, 22 DGND, 23 OVDD, 24 DOUT, 25 ~{{EOC}}, 26 AIN0, 27 AIN1, 28 AIN2, 29 EP

## MAX11124xTI
designator *  value MAX11124xTI  Reference: U
ki_keywords: MAXIM ADC 3.3V 10-Bit SPI; ki_description: 8-Channel 10-Bit 1.5MHz Full-Linear Bandwidth External Reference High-Speed Low-Power ADC, QFN-28; ki_fp_filters: *QFN*1EP*5x5mm*P0.5mm*; Footprint: Package_DFN_QFN:TQFN-28-1EP_5x5mm_P0.5mm_EP3.25x3.25mm; Datasheet: https://datasheets.maximintegrated.com/en/ds/MAX11120-MAX11128.pdf
pins: 1 AIN3, 2 AIN4, 3 AIN5, 4 AIN6, 5 AIN7, 6 GND hidden, 7 GND hidden, 8 GND hidden, 9 GND hidden, 10 GND hidden, 11 GND hidden, 12 ~{{CNVST}}, 13 REF-, 14 GND, 15 REF+, 16 GND hidden, 17 VDD, 18 VDD hidden, 19 SCLK, 20 ~{{CS}}, 21 DIN, 22 DGND, 23 OVDD, 24 DOUT, 25 ~{{EOC}}, 26 AIN0, 27 AIN1, 28 AIN2, 29 EP

## MAX11125xTI
designator *  value MAX11125xTI  Reference: U
ki_keywords: MAXIM ADC 3.3V 12-Bit SPI; ki_description: 8-Channel 12-Bit 1.5MHz Full-Linear Bandwidth External Reference High-Speed Low-Power ADC, QFN-28; ki_fp_filters: *QFN*1EP*5x5mm*P0.5mm*; Footprint: Package_DFN_QFN:TQFN-28-1EP_5x5mm_P0.5mm_EP3.25x3.25mm; Datasheet: https://datasheets.maximintegrated.com/en/ds/MAX11120-MAX11128.pdf
pins: 1 AIN3, 2 AIN4, 3 AIN5, 4 AIN6, 5 AIN7, 6 GND hidden, 7 GND hidden, 8 GND hidden, 9 GND hidden, 10 GND hidden, 11 GND hidden, 12 ~{{CNVST}}, 13 REF-, 14 GND, 15 REF+, 16 GND hidden, 17 VDD, 18 VDD hidden, 19 SCLK, 20 ~{{CS}}, 21 DIN, 22 DGND, 23 OVDD, 24 DOUT, 25 ~{{EOC}}, 26 AIN0, 27 AIN1, 28 AIN2, 29 EP

## MAX11126xTI
designator *  value MAX11126xTI  Reference: U
ki_keywords: MAXIM ADC 3.3V 8-Bit SPI; ki_description: 16-Channel 8-Bit 1.5MHz Full-Linear Bandwidth External Reference High-Speed Low-Power ADC, QFN-28; ki_fp_filters: *QFN*1EP*5x5mm*P0.5mm*; Footprint: Package_DFN_QFN:TQFN-28-1EP_5x5mm_P0.5mm_EP3.25x3.25mm; Datasheet: https://datasheets.maximintegrated.com/en/ds/MAX11120-MAX11128.pdf
pins: 1 AIN3, 2 AIN4, 3 AIN5, 4 AIN6, 5 AIN7, 6 AIN8, 7 AIN9, 8 AIN10, 9 AIN11, 10 AIN12, 11 AIN13, 12 ~{{CNVST}/AIN14}, 13 REF-/AIN15, 14 GND, 15 REF+, 16 GND hidden, 17 VDD, 18 VDD hidden, 19 SCLK, 20 ~{{CS}}, 21 DIN, 22 DGND, 23 OVDD, 24 DOUT, 25 ~{{EOC}}, 26 AIN0, 27 AIN1, 28 AIN2, 29 EP

## MAX11127xTI
designator *  value MAX11127xTI  Reference: U
ki_keywords: MAXIM ADC 3.3V 10-Bit SPI; ki_description: 16-Channel 10-Bit 1.5MHz Full-Linear Bandwidth External Reference High-Speed Low-Power ADC, QFN-28; ki_fp_filters: *QFN*1EP*5x5mm*P0.5mm*; Footprint: Package_DFN_QFN:TQFN-28-1EP_5x5mm_P0.5mm_EP3.25x3.25mm; Datasheet: https://datasheets.maximintegrated.com/en/ds/MAX11120-MAX11128.pdf
pins: 1 AIN3, 2 AIN4, 3 AIN5, 4 AIN6, 5 AIN7, 6 AIN8, 7 AIN9, 8 AIN10, 9 AIN11, 10 AIN12, 11 AIN13, 12 ~{{CNVST}/AIN14}, 13 REF-/AIN15, 14 GND, 15 REF+, 16 GND hidden, 17 VDD, 18 VDD hidden, 19 SCLK, 20 ~{{CS}}, 21 DIN, 22 DGND, 23 OVDD, 24 DOUT, 25 ~{{EOC}}, 26 AIN0, 27 AIN1, 28 AIN2, 29 EP

## MAX11128xTI
designator *  value MAX11128xTI  Reference: U
ki_keywords: MAXIM ADC 3.3V 12-Bit SPI; ki_description: 16-Channel 12-Bit 1.5MHz Full-Linear Bandwidth External Reference High-Speed Low-Power ADC, QFN-28; ki_fp_filters: *QFN*1EP*5x5mm*P0.5mm*; Footprint: Package_DFN_QFN:TQFN-28-1EP_5x5mm_P0.5mm_EP3.25x3.25mm; Datasheet: https://datasheets.maximintegrated.com/en/ds/MAX11120-MAX11128.pdf
pins: 1 AIN3, 2 AIN4, 3 AIN5, 4 AIN6, 5 AIN7, 6 AIN8, 7 AIN9, 8 AIN10, 9 AIN11, 10 AIN12, 11 AIN13, 12 ~{{CNVST}/AIN14}, 13 REF-/AIN15, 14 GND, 15 REF+, 16 GND hidden, 17 VDD, 18 VDD hidden, 19 SCLK, 20 ~{{CS}}, 21 DIN, 22 DGND, 23 OVDD, 24 DOUT, 25 ~{{EOC}}, 26 AIN0, 27 AIN1, 28 AIN2, 29 EP

## MAX11612
designator *  value MAX11612  Reference: U
ki_keywords: adc i2c 4ch; ki_description: 4-channel single-ended or 2-channel, differential, 12-bit ADC, I2C, 4.096V internal reference, 8-MSOP package; ki_fp_filters: MSOP*3x3mm*P0.65mm*; Footprint: Package_SO:MSOP-8_3x3mm_P0.65mm; Datasheet: https://datasheets.maximintegrated.com/en/ds/MAX11612-MAX11617.pdf
pins: 1 AIN0, 2 AIN1, 3 AIN2, 4 AIN3/REF, 5 SCL, 6 SDA, 7 GND, 8 Vdd

## MAX11613
designator *  value MAX11613  Reference: U
ki_keywords: adc i2c 4ch; ki_description: 4-channel single-ended or 2-channel, differential, 12-bit ADC, I2C, 2.048V internal reference, 8-MSOP package; ki_fp_filters: MSOP*3x3mm*P0.65mm*; Footprint: Package_SO:MSOP-8_3x3mm_P0.65mm; Datasheet: https://datasheets.maximintegrated.com/en/ds/MAX11612-MAX11617.pdf
pins: 1 AIN0, 2 AIN1, 3 AIN2, 4 AIN3/REF, 5 SCL, 6 SDA, 7 GND, 8 Vdd

## MAX11614
designator *  value MAX11614  Reference: U
ki_keywords: adc i2c 8ch; ki_description: 8-channel single-ended or 4-channel, differential, 12-bit ADC, I2C, 4.096V internal reference, 16-QSOP package; ki_fp_filters: QSOP*3.9x4.9mm*P0.635mm*; Footprint: Package_SO:QSOP-16_3.9x4.9mm_P0.635mm; Datasheet: https://datasheets.maximintegrated.com/en/ds/MAX11612-MAX11617.pdf
pins: 1 REF, 2 NC hidden, 3 NC hidden, 4 NC hidden, 5 AIN0, 6 AIN1, 7 AIN2, 8 AIN3, 9 AIN4, 10 AIN5, 11 AIN6, 12 AIN7, 13 SCL, 14 SDA, 15 GND, 16 Vdd

## MAX11615
designator *  value MAX11615  Reference: U
ki_keywords: adc i2c 8ch; ki_description: 8-channel single-ended or 4-channel, differential, 12-bit ADC, I2C, 2.048V internal reference, 16-QSOP package; ki_fp_filters: QSOP*3.9x4.9mm*P0.635mm*; Footprint: Package_SO:QSOP-16_3.9x4.9mm_P0.635mm; Datasheet: https://datasheets.maximintegrated.com/en/ds/MAX11612-MAX11617.pdf
pins: 1 REF, 2 NC hidden, 3 NC hidden, 4 NC hidden, 5 AIN0, 6 AIN1, 7 AIN2, 8 AIN3, 9 AIN4, 10 AIN5, 11 AIN6, 12 AIN7, 13 SCL, 14 SDA, 15 GND, 16 Vdd

## MAX11616
designator *  value MAX11616  Reference: U
ki_keywords: adc i2c 12ch; ki_description: 12-channel single-ended or 6-channel, differential, 12-bit ADC, I2C, 4.096V internal reference, 16-QSOP package; ki_fp_filters: QSOP*3.9x4.9mm*P0.635mm*; Footprint: Package_SO:QSOP-16_3.9x4.9mm_P0.635mm; Datasheet: https://datasheets.maximintegrated.com/en/ds/MAX11612-MAX11617.pdf
pins: 1 AIN11, 2 AIN10, 3 AIN9, 4 AIN8, 5 AIN0, 6 AIN1, 7 AIN2, 8 AIN3, 9 AIN4, 10 AIN5, 11 AIN6, 12 AIN7, 13 SCL, 14 SDA, 15 GND, 16 Vdd

## MAX11617
designator *  value MAX11617  Reference: U
ki_keywords: adc i2c 12ch; ki_description: 12-channel single-ended or 6-channel, differential, 12-bit ADC, I2C, 2.048V internal reference, 16-QSOP package; ki_fp_filters: QSOP*3.9x4.9mm*P0.635mm*; Footprint: Package_SO:QSOP-16_3.9x4.9mm_P0.635mm; Datasheet: https://datasheets.maximintegrated.com/en/ds/MAX11612-MAX11617.pdf
pins: 1 AIN11, 2 AIN10, 3 AIN9, 4 AIN8, 5 AIN0, 6 AIN1, 7 AIN2, 8 AIN3, 9 AIN4, 10 AIN5, 11 AIN6, 12 AIN7, 13 SCL, 14 SDA, 15 GND, 16 Vdd

## MCP3002
designator *  value MCP3002  Reference: U
ki_keywords: Dual Channel 10-Bit ADC SPI 2CH; ki_description: Dual Channel 10-Bit A/D Converter with SPI Serial Interface; ki_fp_filters: DIP*W7.62mm** SOIC*3.9x4.9mm*P1.27mm* TSSOP*3x3mm*P0.65mm* MSOP*3x3mm*P0.65mm*; Datasheet: http://ww1.microchip.com/downloads/en/DeviceDoc/21294E.pdf
pins: 1 ~{{CS}/SHDN}, 2 CH0, 3 CH1, 4 VSS, 5 DIN, 6 DOUT, 7 CLK, 8 VDD/VREF

## MCP3004
designator *  value MCP3004  Reference: U
ki_keywords: 10-Bit ADC SPI 4CH; ki_description: 4-Channel 10-Bit A/D Converters with SPI Interface; ki_fp_filters: DIP*W7.62mm* SOIC*3.9x8.7mm*P1.27mm* TSSOP*4.4x5mm*P0.65mm*; Datasheet: http://ww1.microchip.com/downloads/en/DeviceDoc/21295C.pdf
pins: 1 CH0, 2 CH1, 3 CH2, 4 CH3, 5 NC hidden, 6 NC hidden, 7 DGND, 8 ~{{CS}/SHDN}, 9 Din, 10 Dout, 11 CLK, 12 AGND, 13 Vref, 14 Vdd
text: MUX; ADC; CNTRL

## MCP3008
designator *  value MCP3008  Reference: U
ki_keywords: 12bit ADC Reference Single Supply SPI 8CH; ki_description: A/D Converter, 10-Bit, 8-Channel, SPI Interface , 2.7V-5.5V; ki_fp_filters: DIP*W7.62mm* SOIC*3.9x9.9mm*P1.27mm*; Datasheet: http://ww1.microchip.com/downloads/en/DeviceDoc/21295d.pdf
pins: 1 CH0, 2 CH1, 3 CH2, 4 CH3, 5 CH4, 6 CH5, 7 CH6, 8 CH7, 9 DGND, 10 ~{{CS}/SHDN}, 11 Din, 12 Dout, 13 CLK, 14 AGND, 15 Vref, 16 Vdd
text: ADC; MUX; CNTRL

## MCP3201
designator *  value MCP3201  Reference: U
ki_keywords: 12-Bit Differential ADC SPI 1ch; ki_description: 2.7V 12-Bit A/D Converter with SPI™ Serial Interface, PDIP-8/SOIC-8/MSOP-8/TSSOP-8; ki_fp_filters: SOIC*3.9x4.9mm*P1.27mm* DIP*W7.62mm* TSSOP*4.4x3mm*P0.65mm* MSOP*3x3mm*P0.65mm*; Datasheet: http://ww1.microchip.com/downloads/en/DeviceDoc/21290D.pdf
pins: 1 Vref, 2 IN+, 3 IN-, 4 Vss, 5 ~{{CS}/SHDN}, 6 Dout, 7 CLK, 8 Vdd

## MCP3202
designator *  value MCP3202  Reference: U
ki_keywords: 12bit ADC Reference Single Supply SPI 2ch; ki_description: A/D Converter, 12-Bit, 2-Channel, SPI Interface, 2.7V-5.5V; ki_fp_filters: DIP*W7.62mm** SOIC*3.9x4.9mm*P1.27mm* TSSOP*3x3mm*P0.65mm* MSOP*3x3mm*P0.65mm*; Datasheet: http://ww1.microchip.com/downloads/en/DeviceDoc/21034D.pdf
pins: 1 ~{{CS}/SHDN}, 2 CH0, 3 CH1, 4 VSS, 5 DIN, 6 DOUT, 7 CLK, 8 VDD/VREF

## MCP3204
designator *  value MCP3204  Reference: U
ki_keywords: 12bit ADC Reference Single Supply SPI 4ch; ki_description: A/D Converter, 12-Bit, 4-Channel, SPI Interface, 2.7V-5.5V; ki_fp_filters: SOIC*3.9x8.7mm*P1.27mm* DIP*W7.62mm* TSSOP*4.4x5mm*P0.65mm*; Datasheet: http://ww1.microchip.com/downloads/en/DeviceDoc/21298c.pdf
pins: 1 CH0, 2 CH1, 3 CH2, 4 CH3, 5 NC hidden, 6 NC hidden, 7 DGND, 8 ~{{CS}/SHDN}, 9 Din, 10 Dout, 11 CLK, 12 AGND, 13 Vref, 14 Vdd
text: MUX; ADC; CNTRL

## MCP3208
designator *  value MCP3208  Reference: U
ki_keywords: 12bit ADC Reference Single Supply SPI 8ch; ki_description: A/D Converter, 12-Bit, 8-Channel, SPI Interface , 2.7V-5.5V; ki_fp_filters: DIP*W7.62mm* SOIC*3.9x9.9mm*P1.27mm*; Datasheet: http://ww1.microchip.com/downloads/en/DeviceDoc/21298c.pdf
pins: 1 CH0, 2 CH1, 3 CH2, 4 CH3, 5 CH4, 6 CH5, 7 CH6, 8 CH7, 9 DGND, 10 ~{{CS}/SHDN}, 11 Din, 12 Dout, 13 CLK, 14 AGND, 15 Vref, 16 Vdd
text: ADC; MUX; CNTRL

## MCP3301
designator *  value MCP3301  Reference: U
ki_keywords: 13-Bit Differential ADC SPI  1ch; ki_description: 13-Bit Differential Input, Low Power A/D Converter with SPI Interface; ki_fp_filters: DIP*W7.62mm* SOIC*3.9x4.9mm*P1.27mm*; Datasheet: http://ww1.microchip.com/downloads/en/DeviceDoc/21700D.pdf
pins: 1 Vref, 2 IN+, 3 IN-, 4 Vss, 5 ~{{CS}/SHDN}, 6 Dout, 7 CLK, 8 Vdd

## MCP3421A0T-ECH
designator *  value MCP3421A0T-ECH  Reference: U
ki_keywords: Sigma-Delta ADC Converter 18bit I2C 1ch; ki_description: Single Delta-Sigma 18bit Analog to Digital Converter, I2C Interface, SOT-23-6; ki_fp_filters: SOT?23* SOT?23*; Datasheet: http://ww1.microchip.com/downloads/en/DeviceDoc/22003e.pdf
pins: 1 Vin+, 2 Vss, 3 SCL, 4 SDA, 5 Vdd, 6 Vin-

## MCP3422
designator *  value MCP3422  Reference: U
ki_keywords: 18-Bit ADC I2C IIC I²C Delta-Sigma-ADC Delta-Sigma-ADC Reference 2ch; ki_description: 2-Channel, 18-Bit, Delta-Sigma AD-Converter, I²C Interface, Reference; ki_fp_filters: MSOP*3x3mm*P0.65mm* SOIC*3.9x4.9mm*P1.27mm*; Datasheet: http://ww1.microchip.com/downloads/en/DeviceDoc/22088c.pdf
pins: 1 CH1+, 2 CH1-, 3 Vdd, 4 SDA, 5 SCL, 6 Vss, 7 CH2+, 8 CH2-
text: MUX&PGA; ADC; CNTRL; Vref

## MCP3423
designator *  value MCP3423  Reference: U
ki_keywords: 18-Bit ADC I2C IIC I²C Delta-Sigma-ADC Delta-Sigma-ADC Reference 2ch; ki_description: 2-Channel, 18-Bit, Delta-Sigma AD-Converter, I²C Interface, Reference, MSOP; ki_fp_filters: MSOP*3x3mm*P0.5mm*; Footprint: Package_SO:MSOP-10_3x3mm_P0.5mm; Datasheet: http://ww1.microchip.com/downloads/en/DeviceDoc/22088c.pdf
pins: 1 CH1+, 2 CH1-, 3 Vss, 4 CH2+, 5 CH2-, 6 Vdd, 7 SDA, 8 SCL, 9 A0, 10 A1
text: MUX&PGA; ADC; CNTRL; Vref

## MCP3424
designator *  value MCP3424  Reference: U
ki_keywords: 18-Bit ADC I2C IIC I²C Delta-Sigma-ADC Delta-Sigma-ADC Reference 4ch; ki_description: 4-Channel, 18-Bit, Delta-Sigma AD-Converter, I²C Interface, Reference; ki_fp_filters: SOIC*3.9x8.7mm*P1.27mm* TSSOP*4.4x5mm*P0.65mm*; Datasheet: http://ww1.microchip.com/downloads/en/DeviceDoc/22088c.pdf
pins: 1 CH1+, 2 CH1-, 3 CH2+, 4 CH2-, 5 Vss, 6 Vdd, 7 SDA, 8 SCL, 9 A0, 10 A1, 11 CH3+, 12 CH3-, 13 CH4+, 14 CH4-
text: CNTRL; ADC; MUX & PGA; Vref

## MCP3425A0T-ECH
designator *  value MCP3425A0T-ECH  Reference: U
ki_keywords: Sigma-Delta ADC Converter 16bit I2C  1ch; ki_description: Single Delta-Sigma 16bit Analog to Digital Converter, I2C Interface, SOT-23-6; ki_fp_filters: SOT?23* SOT?23*; Datasheet: http://ww1.microchip.com/downloads/en/DeviceDoc/22072b.pdf
pins: 1 Vin+, 2 Vss, 3 SCL, 4 SDA, 5 Vdd, 6 Vin-

## MCP3425A1T-ECH
designator *  value MCP3425A1T-ECH  Reference: U
ki_keywords: Sigma-Delta ADC Converter 16bit I2C 1ch; ki_description: Single Delta-Sigma 16bit Analog to Digital Converter, I2C Interface, SOT-23-6; ki_fp_filters: SOT?23* SOT?23*; Datasheet: http://ww1.microchip.com/downloads/en/DeviceDoc/22072b.pdf
pins: 1 Vin+, 2 Vss, 3 SCL, 4 SDA, 5 Vdd, 6 Vin-

## MCP3425A2T-ECH
designator *  value MCP3425A2T-ECH  Reference: U
ki_keywords: Sigma-Delta ADC Converter 16bit I2C 1ch; ki_description: Single Delta-Sigma 16bit Analog to Digital Converter, I2C Interface, SOT-23-6; ki_fp_filters: SOT?23* SOT?23*; Datasheet: http://ww1.microchip.com/downloads/en/DeviceDoc/22072b.pdf
pins: 1 Vin+, 2 Vss, 3 SCL, 4 SDA, 5 Vdd, 6 Vin-

## MCP3425A3T-ECH
designator *  value MCP3425A3T-ECH  Reference: U
ki_keywords: Sigma-Delta ADC Converter 16bit I2C 1ch; ki_description: Single Delta-Sigma 16bit Analog to Digital Converter, I2C Interface, SOT-23-6; ki_fp_filters: SOT?23* SOT?23*; Datasheet: http://ww1.microchip.com/downloads/en/DeviceDoc/22072b.pdf
pins: 1 Vin+, 2 Vss, 3 SCL, 4 SDA, 5 Vdd, 6 Vin-

## MCP3426-xMC
designator *  value MCP3426-xMC  Reference: U
ki_keywords: adc 2ch 16bit i2c; ki_description: 16-Bit, Multi-Channel ΔΣ Analog-to-Digital Converter with I2C Interface and On-Board Reference, DFN-8; ki_fp_filters: DFN*3x2mm*P0.5mm*; Footprint: Package_DFN_QFN:DFN-8-1EP_3x2mm_P0.5mm_EP1.75x1.45mm; Datasheet: http://ww1.microchip.com/downloads/en/DeviceDoc/22226a.pdf
pins: 1 CH1+, 2 CH1-, 3 VDD, 4 SDA, 5 SCL, 6 VSS, 7 CH2+, 8 CH2-, 9 VSS hidden

## MCP3426-xMS
designator *  value MCP3426-xMS  Reference: U
ki_keywords: adc 2ch 16bit i2c; ki_description: 16-Bit, Multi-Channel ΔΣ Analog-to-Digital Converter with I2C Interface and On-Board Reference, MSOP-8; ki_fp_filters: MSOP*3x3mm*P0.65mm* SOIC*3.9x4.9mm*P1.27mm*; Datasheet: http://ww1.microchip.com/downloads/en/DeviceDoc/22226a.pdf
pins: 1 CH1+, 2 CH1-, 3 VDD, 4 SDA, 5 SCL, 6 VSS, 7 CH2+, 8 CH2-

## MCP3426-xSN
designator *  value MCP3426-xSN  Reference: U
ki_keywords: adc 2ch 16bit i2c; ki_description: 16-Bit, Multi-Channel ΔΣ Analog-to-Digital Converter with I2C Interface and On-Board Reference, SOIC-8; ki_fp_filters: MSOP*3x3mm*P0.65mm* SOIC*3.9x4.9mm*P1.27mm*; Datasheet: http://ww1.microchip.com/downloads/en/DeviceDoc/22226a.pdf
pins: 1 CH1+, 2 CH1-, 3 VDD, 4 SDA, 5 SCL, 6 VSS, 7 CH2+, 8 CH2-

## MCP3427-xMF
designator *  value MCP3427-xMF  Reference: U
ki_keywords: adc 2ch 16bit i2c; ki_description: 16-Bit, Multi-Channel ΔΣ Analog-to-Digital Converter with I2C Interface and On-Board Reference, DFN-10; ki_fp_filters: DFN*3x3mm*P0.5mm*; Footprint: Package_DFN_QFN:DFN-8-1EP_3x3mm_P0.5mm_EP1.66x2.38mm; Datasheet: http://ww1.microchip.com/downloads/en/DeviceDoc/22226a.pdf
pins: 1 CH1+, 2 CH1-, 3 VSS, 4 CH2+, 5 CH2-, 6 VDD, 7 SDA, 8 SCL, 9 Adr0, 10 Adr1, 11 VSS hidden

## MCP3427-xUN
designator *  value MCP3427-xUN  Reference: U
ki_keywords: adc 2ch 16bit i2c; ki_description: 16-Bit, Multi-Channel ΔΣ Analog-to-Digital Converter with I2C Interface and On-Board Reference, MSOP-10; ki_fp_filters: MSOP*3x3mm*P0.5mm*; Footprint: Package_SO:MSOP-10_3x3mm_P0.5mm; Datasheet: http://ww1.microchip.com/downloads/en/DeviceDoc/22226a.pdf
pins: 1 CH1+, 2 CH1-, 3 VSS, 4 CH2+, 5 CH2-, 6 VDD, 7 SDA, 8 SCL, 9 Adr0, 10 Adr1

## MCP3428
designator *  value MCP3428  Reference: U
ki_keywords: adc 4ch 16bit i2c; ki_description: 16-Bit, Multi-Channel ΔΣ Analog-to-Digital Converter with I2C Interface and On-Board Reference, SOIC-14/TSSOP-14; ki_fp_filters: TSSOP*4.4x5mm*P0.65mm* SOIC*3.9x8.7mm*P1.27mm*; Datasheet: http://ww1.microchip.com/downloads/en/DeviceDoc/22226a.pdf
pins: 1 CH1+, 2 CH1-, 3 CH2+, 4 CH2-, 5 VSS, 6 VDD, 7 SDA, 8 SCL, 9 Adr0, 10 Adr1, 11 CH3+, 12 CH3-, 13 CH4+, 14 CH4-

## MCP3550-50-EMS
designator *  value MCP3550-50-EMS  Reference: U
ki_keywords: Sigma-Delta ADC Converter 22bit SPI 1ch; ki_description: Single Delta-Sigma 22bit Analog to Digital Converter, SPI Interface, 50Hz Rejection, MSOP-8; ki_fp_filters: MSOP*; Datasheet: http://ww1.microchip.com/downloads/en/devicedoc/21950c.pdf
pins: 1 Vref, 2 Vin+, 3 Vin-, 4 Vss, 5 SCK, 6 SDO/~{{RDY}}, 7 ~{{CS}}, 8 Vdd

## MCP3550-60-ESN
designator *  value MCP3550-60-ESN  Reference: U
ki_keywords: Sigma-Delta ADC Converter 22bit SPI 1ch; ki_description: Single Delta-Sigma 22bit Analog to Digital Converter, SPI Interface, 60Hz Rejection, MSOP-8; ki_fp_filters: SO*; Datasheet: http://ww1.microchip.com/downloads/en/devicedoc/21950c.pdf
pins: 1 Vref, 2 Vin+, 3 Vin-, 4 VSS, 5 SCK, 6 SDO/~{{RDY}}, 7 ~{{CS}}, 8 VDD

## MCP3551-EMS
designator *  value MCP3551-EMS  Reference: U
ki_keywords: Sigma-Delta ADC Converter 22bit SPI 1ch; ki_description: Single Delta-Sigma 22bit Analog to Digital Converter, SPI Interface, MSOP-8; ki_fp_filters: MSOP*; Datasheet: http://ww1.microchip.com/downloads/en/devicedoc/21950c.pdf
pins: 1 Vref, 2 Vin+, 3 Vin-, 4 Vss, 5 SCK, 6 SDO/~{{RDY}}, 7 ~{{CS}}, 8 Vdd

## MCP3553-ESN
designator *  value MCP3553-ESN  Reference: U
ki_keywords: Sigma-Delta ADC Converter 22bit SPI 1ch; ki_description: Single Delta-Sigma 22bit Analog to Digital Converter, SPI Interface, MSOP-8; ki_fp_filters: SO*; Datasheet: http://ww1.microchip.com/downloads/en/devicedoc/21950c.pdf
pins: 1 Vref, 2 Vin+, 3 Vin-, 4 VSS, 5 SCK, 6 SDO/~{{RDY}}, 7 ~{{CS}}, 8 VDD